# Altium schematic symbol library A6S1101H.SchLib: 1 symbol
Pins are listed as number, name and electrical type; pins without a type are passive.

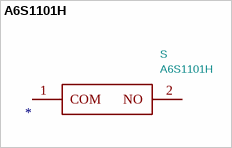
[diagram p0: symbol A6S1101H]

## A6S1101H
designator S  value A6S1101H
OMRON - A6S1101H - SWITCH, DIP, 1 WAY, UNSEALED; Manufacturer_Name: Omron Electronics; Footprint: A6S-1104-H; Supplier: http://www.farnell.com/datasheets/2340746.pdf; Description_: OMRON - A6S1101H - SWITCH, DIP, 1 WAY, UNSEALED; Manufacturer_Part_Number: A6S1101H
footprint A6S-1104-H
pins: 1 COM, 2 NO